# EAGLE library part LTC6078 (library User-Submitted)
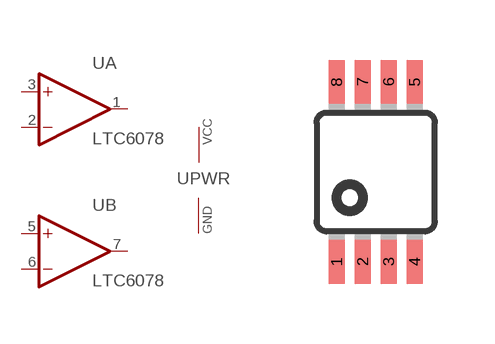
[diagram p1: symbol with the pads of MSOP8; footprint MSOP8]

Designator prefix U; gates A=OP-AMP PWR=PWRN B=OP-AMP

## LTC6078  [MSOP8]
1  A:OUT  out
2  A:-IN  in
3  A:+IN  in
4  PWR:GND  pwr
5  B:+IN  in
6  B:-IN  in
7  B:OUT  out
8  PWR:VCC  pwr

## Footprint MSOP8 (pad centres in mm)
8M, 8-Lead, 0.118" Wide, Miniature Small Outline Package MSOP 8M-Package doc1097.pdf
smd 0.4 x 1.1: 1 -0.975,-2.25; 2 -0.325,-2.25; 3 0.325,-2.25; 4 0.975,-2.25; 5 0.975,2.25; 6 0.325,2.25; 7 -0.325,2.25; 8 -0.975,2.25